# EAGLE library part BTS640S2G (library PROFET - Infineon)
BTS640S2G Smart Sense High-Side Power Switch, VBB 43V, R(ON) 30mOhm TO127P1490X440-8_7N
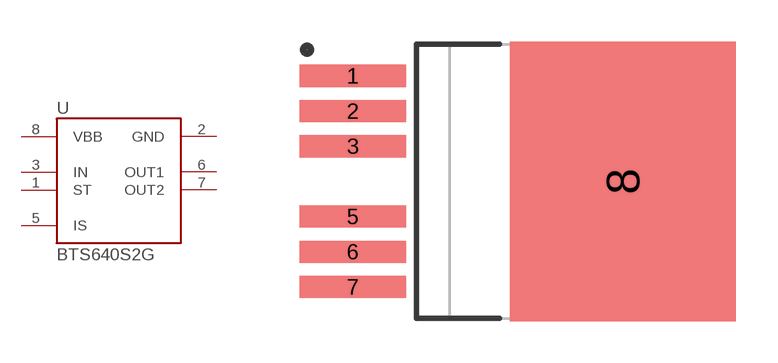
[diagram p46: symbol with the pads of TO127P1490X440-8_7N; footprint TO127P1490X440-8_7N]

Designator prefix U

## BTS640S2G  [TO127P1490X440-8_7N]
1  ST  oc
2  GND  pwr
3  IN  in
5  IS  out
6  OUT1  out
7  OUT2  out
8  VBB  pwr

## Footprint TO127P1490X440-8_7N (pad centres in mm)
Original name TO127P1490X440-8_7N Max Component Height - 4.4mm
smd 3.85 x 0.8: 1 -5.95,3.81; 2 -5.95,2.54; 3 -5.95,1.27; 5 -5.95,-1.27; 6 -5.95,-2.54; 7 -5.95,-3.81
smd 8.15 x 10.1: 8 3.8,0